# EAGLE library part 1MX4_DRAM (library Amiga)
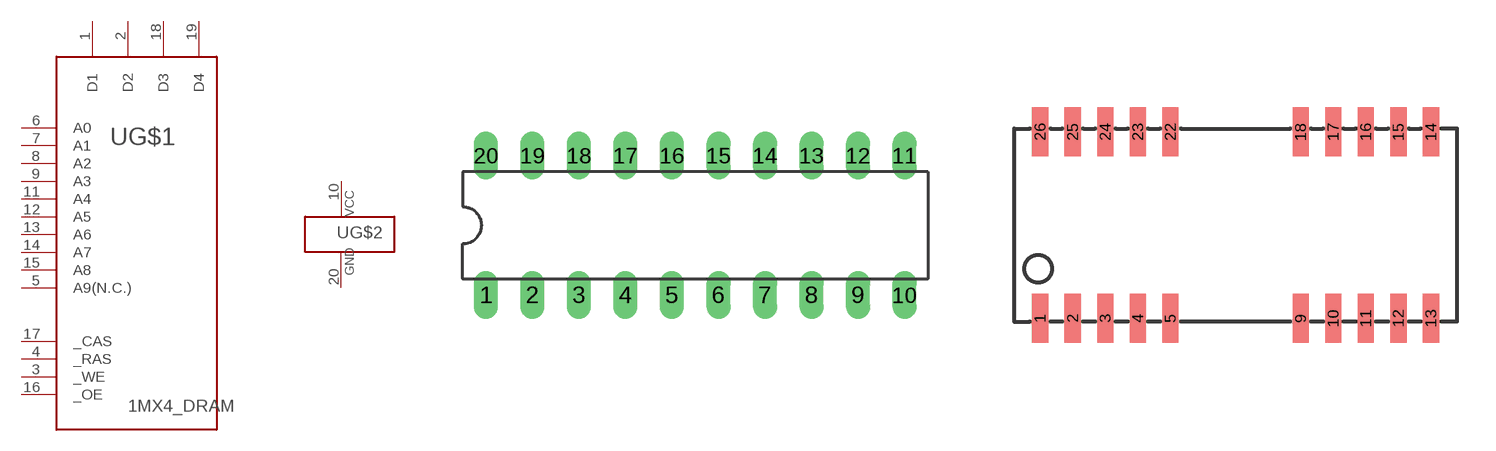
[diagram p42: symbol with the pads of DIL20; footprints DIL20, SOJ26-20]

Designator prefix U; gates G$1=1MX4_DRAM G$2=1VCC-1GND

## 1MX4_DRAML  [DIL20]
1  G$1:D1  in
2  G$1:D2  in
3  G$1:_WE  in
4  G$1:_RAS  in
5  G$1:A9(N.C.)  in
6  G$1:A0  in
7  G$1:A1  in
8  G$1:A2  in
9  G$1:A3  in
10  G$2:VCC1  pwr
11  G$1:A4  in
12  G$1:A5  in
13  G$1:A6  in
14  G$1:A7  in
15  G$1:A8  in
16  G$1:_OE  in
17  G$1:_CAS  in
18  G$1:D3  in
19  G$1:D4  in
20  G$2:GND1  pwr

## 1MX4_DRAMJ  [SOJ26-20]
1  G$1:D1  in
2  G$1:D2  in
3  G$1:_WE  in
4  G$1:_RAS  in
5  G$1:A9(N.C.)  in
9  G$1:A0  in
10  G$1:A1  in
11  G$1:A2  in
12  G$1:A3  in
13  G$2:VCC1  pwr
14  G$1:A4  in
15  G$1:A5  in
16  G$1:A6  in
17  G$1:A7  in
18  G$1:A8  in
22  G$1:_OE  in
23  G$1:_CAS  in
24  G$1:D3  in
25  G$1:D4  in
26  G$2:GND1  pwr

## 1MX4_DRAMZ  [ZIP20]
1  G$1:_OE  in
2  G$1:_CAS  in
3  G$1:D3  in
4  G$1:D4  in
5  G$2:GND1  pwr
6  G$1:D1  in
7  G$1:D2  in
8  G$1:_WE  in
9  G$1:_RAS  in
10  G$1:A9(N.C.)  in
11  G$1:A0  in
12  G$1:A1  in
13  G$1:A2  in
14  G$1:A3  in
15  G$2:VCC1  pwr
16  G$1:A4  in
17  G$1:A5  in
18  G$1:A6  in
19  G$1:A7  in
20  G$1:A8  in

## 1MX4_DRAM  [DIL20_ROUND]
Pads as for DIL20

## Footprint DIL20 (pad centres in mm)
Dual In Line Package
drill 0.813 long: 1 -11.43,-3.81; 2 -8.89,-3.81; 3 -6.35,-3.81; 4 -3.81,-3.81; 5 -1.27,-3.81; 6 1.27,-3.81; 7 3.81,-3.81; 8 6.35,-3.81; 9 8.89,-3.81; 10 11.43,-3.81; 11 11.43,3.81; 12 8.89,3.81; 13 6.35,3.81; 14 3.81,3.81; 15 1.27,3.81; 16 -1.27,3.81; 17 -3.81,3.81; 18 -6.35,3.81; 19 -8.89,3.81; 20 -11.43,3.81

## Footprint SOJ26-20 (pad centres in mm)
Small Outline J-Bend
smd 0.635 x 1.905: 1 -7.62,-3.632; 2 -6.35,-3.632; 3 -5.08,-3.632; 4 -3.81,-3.632; 5 -2.54,-3.632; 9 2.54,-3.632; 10 3.81,-3.632; 11 5.08,-3.632; 12 6.35,-3.632; 13 7.62,-3.632; 14 7.62,3.632; 15 6.35,3.632; 16 5.08,3.632; 17 3.81,3.632; 18 2.54,3.632; 22 -2.54,3.632; 23 -3.81,3.632; 24 -5.08,3.632; 25 -6.35,3.632; 26 -7.62,3.632

## Footprint ZIP20 (pad centres in mm)
Single In Line Socket
drill 0.813: 1 -12.065,-1.27
drill 0.813 octagon: 2 -10.795,1.27; 3 -9.525,-1.27; 4 -8.255,1.27; 5 -6.985,-1.27; 6 -5.715,1.27; 7 -4.445,-1.27; 8 -3.175,1.27; 9 -1.905,-1.27; 10 -0.635,1.27; 11 0.635,-1.27; 12 1.905,1.27; 13 3.175,-1.27; 14 4.445,1.27; 15 5.715,-1.27; 16 6.985,1.27; 17 8.255,-1.27; 18 9.525,1.27; 19 10.795,-1.27; 20 12.065,1.27

## Footprint DIL20_ROUND (pad centres in mm)
drill 0.813: 1 -10.16,-3.81; 2 -7.62,-3.81; 3 -5.08,-3.81; 4 -2.54,-3.81; 5 0,-3.81; 6 2.54,-3.81; 7 5.08,-3.81; 8 7.62,-3.81; 9 10.16,-3.81; 10 12.7,-3.81; 11 12.7,3.81; 12 10.16,3.81; 13 7.62,3.81; 14 5.08,3.81; 15 2.54,3.81; 16 0,3.81; 17 -2.54,3.81; 18 -5.08,3.81; 19 -7.62,3.81; 20 -10.16,3.81